# EAGLE library part PINHD-1X6 (library SquantorConnectors)
PIN HEADER
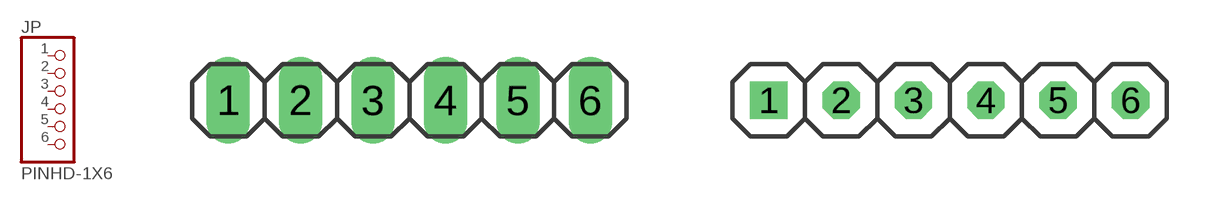
[diagram p6: symbol with the pads of 1X06; footprints 1X06, 1X06_SMALL]

Designator prefix JP

## PINHD-1X6NORMAL  [1X06]
1  1  pas
2  2  pas
3  3  pas
4  4  pas
5  5  pas
6  6  pas

## PINHD-1X6SMALL  [1X06_SMALL]
Pads as for 1X06

## Footprint 1X06 (pad centres in mm)
PIN HEADER
drill 1.016 long: 1 -6.35,0; 2 -3.81,0; 3 -1.27,0; 4 1.27,0; 5 3.81,0; 6 6.35,0

## Footprint 1X06_SMALL (pad centres in mm)
drill 0.8 square: 1 -6.35,0
drill 0.8 octagon: 2 -3.81,0; 3 -1.27,0; 4 1.27,0; 5 3.81,0; 6 6.35,0